# Altium footprint library Capacitors.PcbLib: 4 footprints
Each footprint in its own frame and in the unit in brackets; x right, y up, seen from the top. Pads: shape width x height; smd on the part's side, far side on the other; paste and mask are expansions set on the pad; w line width, h text height; cw(c..) or ccw(c..) is an arc to the next point about the centre after c.
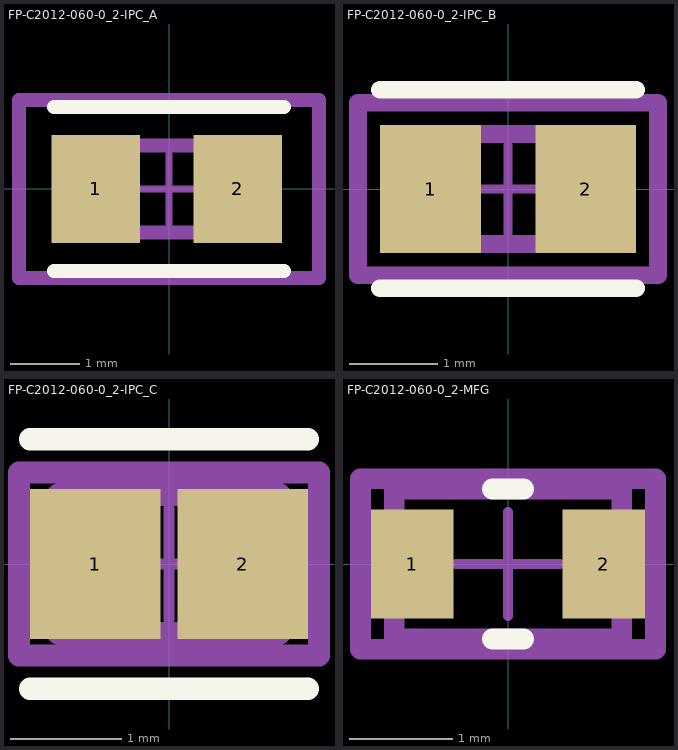
[diagram p0: the footprints below, top view; thin cyan lines are the x and y axes]

## FP-C2012-060-0_2-IPC_A [mm]
pads (2):
  rect 1.27x1.556 smd paste+0 mask+0: 1(-1.052,0) 2(0.984,0)
Top Overlay:
  lines w0.2: -1.653,-1.178 1.653,-1.178 ; -1.653,1.178 1.653,1.178
Top Assembly:
  lines w0.2: -2.153,-1.278 2.153,-1.278 2.153,1.278 -2.153,1.278 -2.153,-1.278
  text ".Designator" at 0,0.188 h1
Top 3D Body:
  lines w0.2: -1,-0.625 1,-0.625 1,0.625 -1,0.625 -1,-0.625
Top Courtyard:
  lines w0.2: -2.153,-1.278 2.153,-1.278 2.153,1.278 -2.153,1.278 -2.153,-1.278
Top Component Center:
  lines w0.1: -0.5,0 0.5,0 ; 0,-0.5 0,0.5
3D body "Cap_TDK_C2012C0G1H103J060AA_eec.STEP": height 0.25, standoff 0, extent -2.153,-1.278 2.153,1.278

## FP-C2012-060-0_2-IPC_B [mil]
pads (2):
  rect 45x57.33 smd paste+0 mask+0: 1(-34.63,0) 2(34.71,0)
Top Overlay:
  lines w7.87: -57.21,-44.41 57.21,-44.41 ; -57.21,44.41 57.21,44.41
Top Assembly:
  lines w7.87: -67.05,-38.51 -67.05,38.51 67.05,38.51 67.05,-38.51 -67.05,-38.51
  text ".Designator" at 0,7.4 h39.37
Top 3D Body:
  lines w7.87: -39.37,-24.61 -39.37,24.61 39.37,24.61 39.37,-24.61 -39.37,-24.61
Top Courtyard:
  lines w7.87: -67.05,-38.51 -67.05,38.51 67.05,38.51 67.05,-38.51 -67.05,-38.51
Top Component Center:
  lines w3.94: -19.68,0 19.68,0 ; 0,-19.68 0,19.68
3D body "Cap_TDK_C2012C0G1H103J060AA_eec.STEP": height 10, standoff 0, extent -67.05,-38.51 67.05,38.51

## FP-C2012-060-0_2-IPC_C [mm]
pads (2):
  rect 1.178x1.356 smd paste+0 mask+0: 1(-0.664,0) 2(0.664,0)
Top Overlay:
  lines w0.2: -1.253,-1.125 1.253,-1.125 ; -1.253,1.125 1.253,1.125
Top Assembly:
  lines w0.2: -1.353,-0.825 -1.353,0.825 1.353,0.825 1.353,-0.825 -1.353,-0.825
  text ".Designator" at 0,0.188 h1
Top 3D Body:
  lines w0.2: -1,-0.625 -1,0.625 1,0.625 1,-0.625 -1,-0.625
Top Courtyard:
  lines w0.2: -1.353,-0.825 -1.353,0.825 1.353,0.825 1.353,-0.825 -1.353,-0.825
Top Component Center:
  lines w0.1: -0.5,0 0.5,0 ; 0,-0.5 0,0.5
3D body "Cap_TDK_C2012C0G1H103J060AA_eec.STEP": height 0.25, standoff 0, extent -1.353,-0.825 1.353,0.825

## FP-C2012-060-0_2-MFG [mm]
pads (2):
  rect 0.8x1.05 smd paste+0 mask+0: 1(-0.925,0) 2(0.925,0)
Top Overlay:
  lines w0.2: -0.15,-0.725 0.15,-0.725 ; -0.15,0.725 0.15,0.725
Top Assembly:
  lines w0.2: -1.425,-0.825 -1.425,0.825 1.425,0.825 1.425,-0.825 -1.425,-0.825
  text ".Designator" at 0,0.188 h1
Top 3D Body:
  lines w0.2: -1.1,-0.725 -1.1,0.725 1.1,0.725 1.1,-0.725 -1.1,-0.725
Top Courtyard:
  lines w0.2: -1.425,-0.825 -1.425,0.825 1.425,0.825 1.425,-0.825 -1.425,-0.825
Top Component Center:
  lines w0.1: -0.5,0 0.5,0 ; 0,-0.5 0,0.5
3D body "Cap_TDK_C2012C0G1H103J060AA_eec.STEP": height 0.25, standoff 0, extent -1.425,-0.825 1.425,0.825